# EAGLE library part MAX1535C/D (library m-pad)
Maxim's MAX1535C/D Highly Integrated Level 2 SMBus Battery Charger General Description: The MAX1535C/D is a highly integrated, multichemistry battery charger that simplifies construction of advanced smart chargers with a minimum number of external components. PIN-PACKAGE: Thin QFN (5mm x 5mm) Features: Compliant with Level 2 Smart Battery Charger Specifications Rev 1.1 Intel SMBus 2-Wire Serial Interface ±0.5% Charge-Voltage Accuracy 11-Bit Charge-Voltage Resolution ±3% Input Current-Limit Accuracy Uses Small (10mOhm) Current-Sense Resistors 8A Maximum Charge Current 6-Bit Input and Charge-Current Resolution 8V to 28V Input Voltage Range 175s Charge Safety Timer Automatic Selection of System Power Source Charges any Battery Chemistry (Li+, NiCd, NiMH, Lead Acid, etc.) Do not use MAX1535A/B due to hardware bugs! It is recommended that you use MAX1535C or MAX1535D! Please send any comments to: messi@users.sourceforge.net
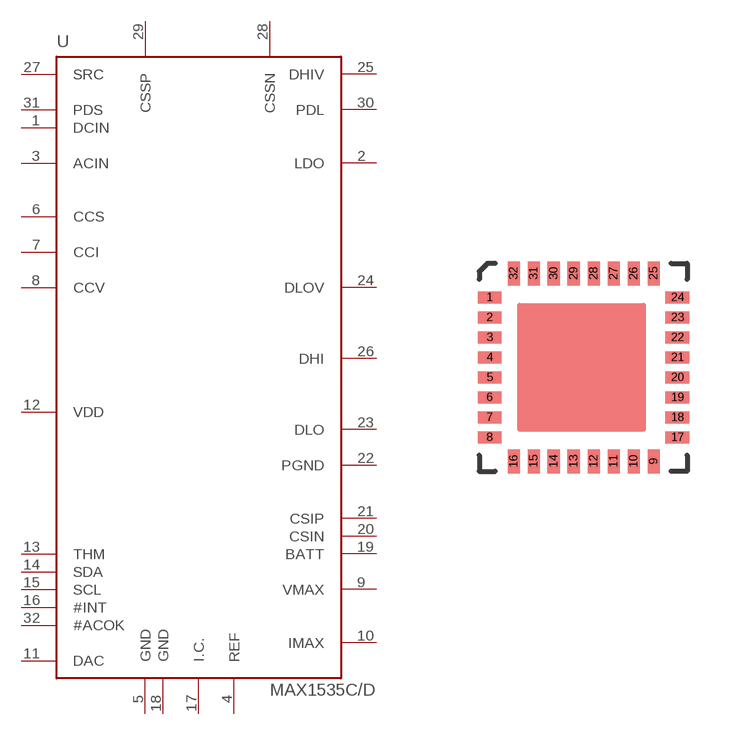
[diagram p38: symbol with the pads of TQFN32; footprint TQFN32]

Designator prefix U

## MAX1535C/D  [TQFN32]
1  DCIN  pwr
2  LDO  out
3  ACIN  pwr
4  REF  pwr
5  GND  pwr
6  CCS  pwr
7  CCI  pwr
8  CCV  pwr
9  VMAX  pwr
10  IMAX  pwr
11  DAC  out
12  VDD  pwr
13  THM  pwr
14  SDA
15  SCL  in
16  #INT  oc
17  I.C.  nc
18  GND  pwr
19  BATT  pwr
20  CSIN  in
21  CSIP  in
22  PGND  pwr
23  DLO  out
24  DLOV  sup
25  DHIV  sup
26  DHI  out
27  SRC  sup
28  CSSN  in
29  CSSP  in
30  PDL  out
31  PDS  out
32  #ACOK  out

## Footprint TQFN32 (pad centres in mm)
Thin QFN32 5x5mm with a 0.5 mm Pitch
smd 0.6 x 0.3: 1 -2.34,1.75; 2 -2.34,1.25; 3 -2.34,0.75; 4 -2.34,0.25; 5 -2.34,-0.25; 6 -2.34,-0.75; 7 -2.34,-1.25; 8 -2.34,-1.75; 17 2.36,-1.75; 18 2.36,-1.25; 19 2.36,-0.75; 20 2.36,-0.25; 21 2.36,0.25; 22 2.36,0.75; 23 2.36,1.25; 24 2.36,1.75
smd 0.3 x 0.6: 9 1.76,-2.35; 10 1.26,-2.35; 11 0.76,-2.35; 12 0.26,-2.35; 13 -0.24,-2.35; 14 -0.74,-2.35; 15 -1.24,-2.35; 16 -1.74,-2.35; 25 1.76,2.35; 26 1.26,2.35; 27 0.76,2.35; 28 0.26,2.35; 29 -0.24,2.35; 30 -0.74,2.35; 31 -1.24,2.35; 32 -1.74,2.35